# Altium schematic symbol library Micro Commercial Components Transistors.SchLib: 2 symbols
Pins are listed as number, name and electrical type; pins without a type are passive.

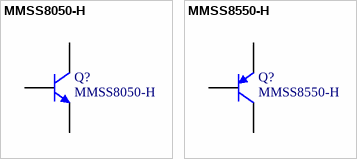
[diagram p0: symbols MMSS8050-H to MMSS8550-H]

## MMSS8050-H
designator Q?
Bipolar (BJT) Transistor NPN 25V 1.5A 100MHz 625mW Surface Mount SOT-23; Manufacturer: Micro Commercial Co; PartNumber: MMSS8050-H-TP; Package: SOT-23-3; PackageDescription: Small Outline Transistor 3 Leads; Supplier 1: Digi-Key; Supplier Part Number 1: MMSS8050-H-TPMSTR-ND
footprint SOT95P237X112-3L (SOT23, 3-Leads, Body 3.0x2.6mm (max), Pitch 0.95mm, IPC High Density)
footprint SOT95P237X112-3M (SOT23, 3-Leads, Body 3.0x2.6mm (max), Pitch 0.95mm, IPC Low Density)
footprint SOT95P237X112-3N (SOT23, 3-Leads, Body 3.0x2.6mm (max), Pitch 0.95mm, IPC Medium Density)
pins: 1 B, 2 E, 3 C

## MMSS8550-H
designator Q?
Bipolar (BJT) Transistor PNP 25V 1.5A 100MHz 625mW Surface Mount SOT-23; Manufacturer: Micro Commercial Co; PartNumber: MMSS8550-H-TP; Package: SOT-23-3; PackageDescription: Small Outline Transistor 3 Leads; Supplier 1: Digi-Key; Supplier Part Number 1: MMSS8550-H-TPMSTR-ND
footprint SOT95P237X112-3L (SOT23, 3-Leads, Body 3.0x2.6mm (max), Pitch 0.95mm, IPC High Density)
footprint SOT95P237X112-3M (SOT23, 3-Leads, Body 3.0x2.6mm (max), Pitch 0.95mm, IPC Low Density)
footprint SOT95P237X112-3N (SOT23, 3-Leads, Body 3.0x2.6mm (max), Pitch 0.95mm, IPC Medium Density)
pins: 1 B, 2 E, 3 C